# EAGLE library part K3-1310S-E1 (library custom)
DP3T Slide Switch 13x3.5mm 250gf DC 6V 300mA ≤50mΩ ≥100MΩ DC500V
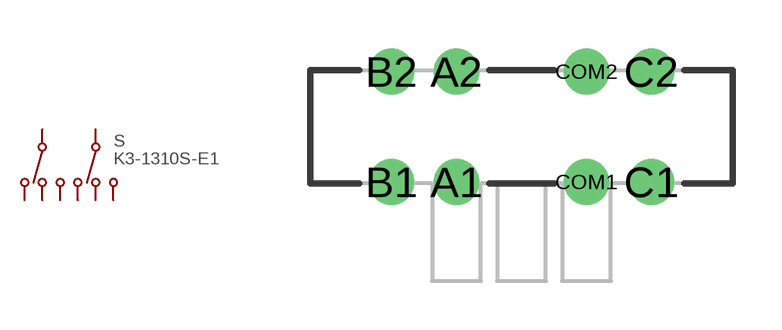
[diagram p145: symbol with the pads of DP3T_SWITCH_K3-2346D-K1; footprint DP3T_SWITCH_K3-2346D-K1]

Designator prefix S

## K3-1310S-E1  [DP3T_SWITCH_K3-2346D-K1]
A1  A1
A2  A2
B1  B1
B2  B2
C1  C1
C2  C2
COM1  COM1
COM2  COM2

## Footprint DP3T_SWITCH_K3-2346D-K1 (pad centres in mm)
drill 0.9: A1 -2,-1.7; A2 -2,1.7; B1 -4,-1.7; B2 -4,1.7; C1 4,-1.7; C2 4,1.7; COM1 2,-1.7; COM2 2,1.7